# EAGLE library part NOKIA-3310-64X64 (library lcd)
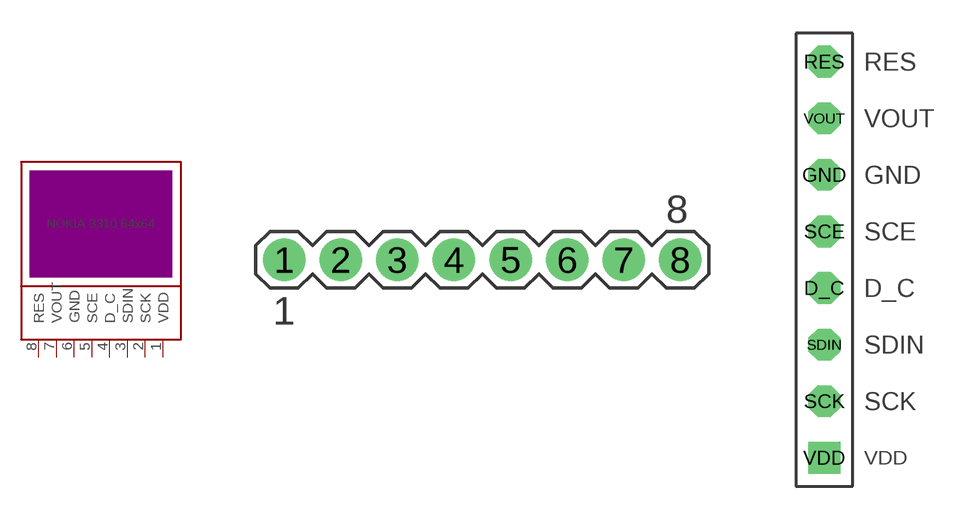
[diagram p0: symbol with the pads of 1X8; footprints 1X8, CONN-LCD3310]

Designator prefix LCD

## NOKIA-3310-64X64  [1X8]
1  VDD  pas
2  SCK  pas
3  SDIN  pas
4  D_C  pas
5  SCE  pas
6  GND  pas
7  VOUT  pas
8  RES  pas

## NOKIA-3310-64X64SPARKFUN  [CONN-LCD3310]
D_C  D_C  pas
GND  GND  pas
RES  RES  pas
SCE  SCE  pas
SCK  SCK  pas
SDIN  SDIN  pas
VDD  VDD  pas
VOUT  VOUT  pas

## Footprint 1X8 (pad centres in mm)
drill 0.813 pad 1.905: 1 -8.89,0; 2 -6.35,0; 3 -3.81,0; 4 -1.27,0; 5 1.27,0; 6 3.81,0; 7 6.35,0; 8 8.89,0

## Footprint CONN-LCD3310 (pad centres in mm)
drill 0.9 pad 1.422 octagon: D_C 0,7.62; GND 0,12.7; RES 0,17.78; SCE 0,10.16; SCK 0,2.54; SDIN 0,5.08; VOUT 0,15.24
drill 0.9 pad 1.422 square: VDD 0,0